# Altium schematic symbol library operacake.SchLib: 18 symbols
Pins are listed as number, name and electrical type; pins without a type are passive.

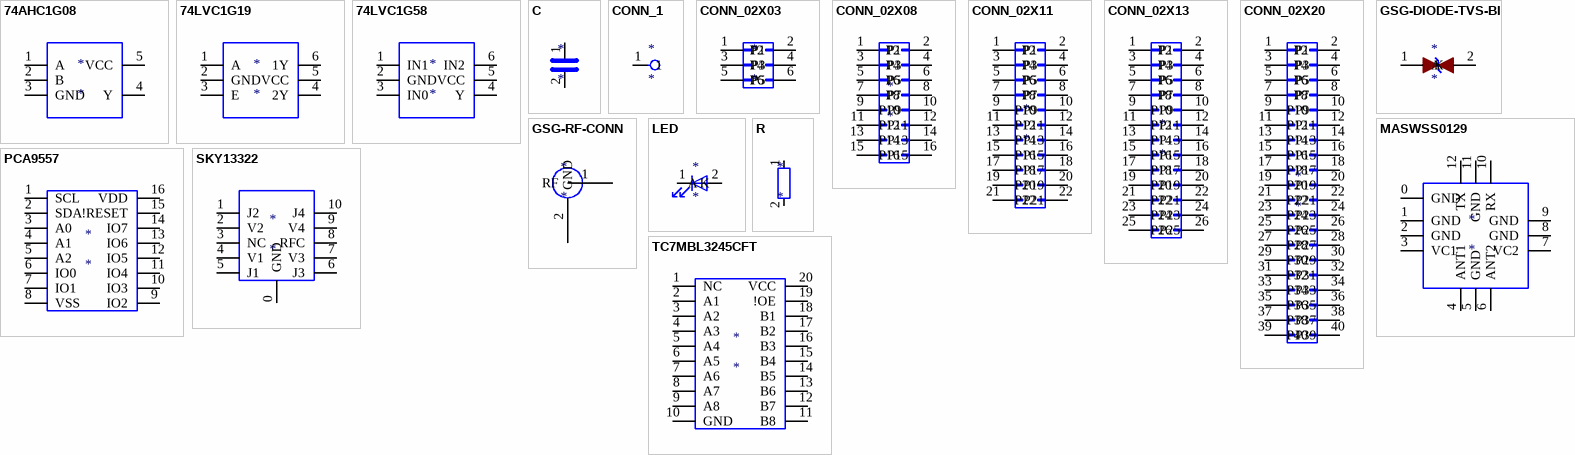
[diagram p0: symbols 74AHC1G08 to TC7MBL3245CFT]

## 74AHC1G08
designator *
pins: 1 A, 2 B, 3 GND, 4 Y, 5 VCC

## 74LVC1G19
designator *
pins: 1 A, 2 GND, 3 E, 4 2Y, 5 VCC, 6 1Y

## 74LVC1G58
designator *
pins: 1 IN1, 2 GND, 3 IN0, 4 Y, 5 VCC, 6 IN2

## C
designator *
pins: 1, 2

## CONN_1
designator *
pins: 1

## CONN_02X03
designator *
pins: 1 P1, 2 P2, 3 P3, 4 P4, 5 P5, 6 P6

## CONN_02X08
designator *
pins: 1 P1, 2 P2, 3 P3, 4 P4, 5 P5, 6 P6, 7 P7, 8 P8, 9 P9, 10 P10, 11 P11, 12 P12, 13 P13, 14 P14, 15 P15, 16 P16

## CONN_02X11
designator *
pins: 1 P1, 2 P2, 3 P3, 4 P4, 5 P5, 6 P6, 7 P7, 8 P8, 9 P9, 10 P10, 11 P11, 12 P12, 13 P13, 14 P14, 15 P15, 16 P16, 17 P17, 18 P18, 19 P19, 20 P20, 21 P21, 22 P22

## CONN_02X13
designator *
pins: 1 P1, 2 P2, 3 P3, 4 P4, 5 P5, 6 P6, 7 P7, 8 P8, 9 P9, 10 P10, 11 P11, 12 P12, 13 P13, 14 P14, 15 P15, 16 P16, 17 P17, 18 P18, 19 P19, 20 P20, 21 P21, 22 P22, 23 P23, 24 P24, 25 P25, 26 P26

## CONN_02X20
designator *
pins: 1 P1, 2 P2, 3 P3, 4 P4, 5 P5, 6 P6, 7 P7, 8 P8, 9 P9, 10 P10, 11 P11, 12 P12, 13 P13, 14 P14, 15 P15, 16 P16, 17 P17, 18 P18, 19 P19, 20 P20, 21 P21, 22 P22, 23 P23, 24 P24, 25 P25, 26 P26, 27 P27, 28 P28, 29 P29, 30 P30, 31 P31, 32 P32, 33 P33, 34 P34, 35 P35, 36 P36, 37 P37, 38 P38, 39 P39, 40 P40

## GSG-DIODE-TVS-BI
designator *
pins: 1 A, 2 K

## GSG-RF-CONN
designator *
pins: 1 RF, 2 GND

## LED
designator *
pins: 1 K, 2 A

## MASWSS0129
designator *
pins: 0 GND, 1 GND, 2 GND, 3 VC1, 4 ANT1, 5 GND, 6 ANT2, 7 VC2, 8 GND, 9 GND, 10 RX, 11 GND, 12 TX

## PCA9557
designator *
pins: 1 SCL, 2 SDA, 3 A0, 4 A1, 5 A2, 6 IO0, 7 IO1, 8 VSS, 9 IO2, 10 IO3, 11 IO4, 12 IO5, 13 IO6, 14 IO7, 15 !RESET, 16 VDD

## R
designator *
pins: 1, 2

## SKY13322
designator *
pins: 0 GND, 1 J2, 2 V2, 3 NC, 4 V1, 5 J1, 6 J3, 7 V3, 8 RFC, 9 V4, 10 J4

## TC7MBL3245CFT
designator *
pins: 1 NC, 2 A1, 3 A2, 4 A3, 5 A4, 6 A5, 7 A6, 8 A7, 9 A8, 10 GND, 11 B8, 12 B7, 13 B6, 14 B5, 15 B4, 16 B3, 17 B2, 18 B1, 19 !OE, 20 VCC